# EAGLE library part TM4C129 (library texas-instruments)
tm4c129dncpdt_ra0_tqfp_v0p1 edit this description Auto generated by make-symbol-device-package-bsdl.ulp Rev. 44 Source: tm4c129dncpdt_ra0_tqfp_v0p1.bsdl
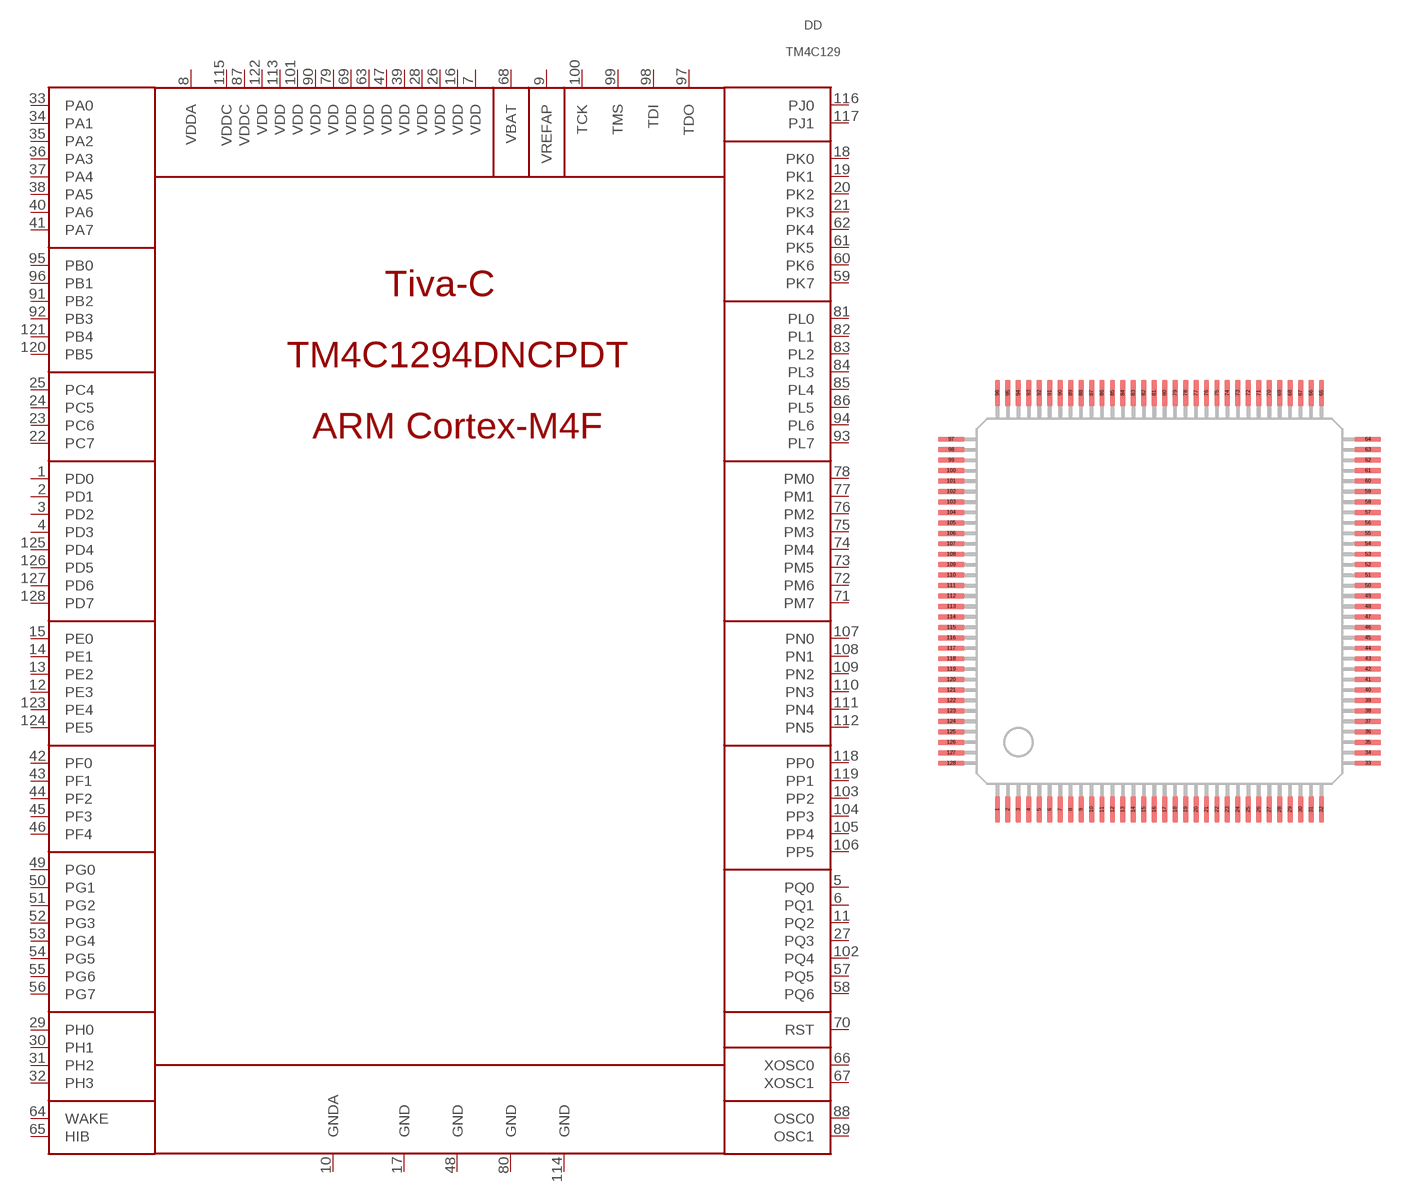
[diagram p1: symbol with the pads of TQFP128; footprint TQFP128]

Designator prefix DD

## TM4C129DNCPDT  [TQFP128]
1  PD0
2  PD1
3  PD2
4  PD3
5  PQ0
6  PQ1
7  VDD  pwr
8  VDDA  pwr
9  VREFAP  pas
10  GNDA  pwr
11  PQ2
12  PE3
13  PE2
14  PE1
15  PE0
16  VDD  pwr
17  GND  pwr
18  PK0
19  PK1
20  PK2
21  PK3
22  PC7
23  PC6
24  PC5
25  PC4
26  VDD  pwr
27  PQ3
28  VDD  pwr
29  PH0
30  PH1
31  PH2
32  PH3
33  PA0
34  PA1
35  PA2
36  PA3
37  PA4
38  PA5
39  VDD  pwr
40  PA6
41  PA7
42  PF0
43  PF1
44  PF2
45  PF3
46  PF4
47  VDD  pwr
48  GND  pwr
49  PG0
50  PG1
51  PG2
52  PG3
53  PG4
54  PG5
55  PG6
56  PG7
57  PQ5
58  PQ6
59  PK7
60  PK6
61  PK5
62  PK4
63  VDD  pwr
64  WAKE  pas
65  HIB  pas
66  XOSC0  pas
67  XOSC1  pas
68  VBAT  pas
69  VDD  pwr
70  RST  in
71  PM7
72  PM6
73  PM5
74  PM4
75  PM3
76  PM2
77  PM1
78  PM0
79  VDD  pwr
80  GND  pwr
81  PL0
82  PL1
83  PL2
84  PL3
85  PL4
86  PL5
87  VDDC  pwr
88  OSC0  pas
89  OSC1  pas
90  VDD  pwr
91  PB2
92  PB3
93  PL7
94  PL6
95  PB0
96  PB1
97  TDO  out
98  TDI  in
99  TMS  in
100  TCK  in
101  VDD  pwr
102  PQ4
103  PP2
104  PP3
105  PP4
106  PP5
107  PN0
108  PN1
109  PN2
110  PN3
111  PN4
112  PN5
113  VDD  pwr
114  GND  pwr
115  VDDC  pwr
116  PJ0
117  PJ1
118  PP0
119  PP1
120  PB5
121  PB4
122  VDD  pwr
123  PE4
124  PE5
125  PD4
126  PD5
127  PD6
128  PD7

## Footprint TQFP128 (pad centres in mm)
smd 0.2 x 1: 1 -6.2,-7.975; 2 -5.8,-7.975; 3 -5.4,-7.975; 4 -5,-7.975; 5 -4.6,-7.975; 6 -4.2,-7.975; 7 -3.8,-7.975; 8 -3.4,-7.975; 9 -3,-7.975; 10 -2.6,-7.975; 11 -2.2,-7.975; 12 -1.8,-7.975; 13 -1.4,-7.975; 14 -1,-7.975; 15 -0.6,-7.975; 16 -0.2,-7.975; 17 0.2,-7.975; 18 0.6,-7.975; 19 1,-7.975; 20 1.4,-7.975; 21 1.8,-7.975; 22 2.2,-7.975; 23 2.6,-7.975; 24 3,-7.975; 25 3.4,-7.975; 26 3.8,-7.975; 27 4.2,-7.975; 28 4.6,-7.975; 29 5,-7.975; 30 5.4,-7.975; 31 5.8,-7.975; 32 6.2,-7.975; 65 6.2,7.975; 66 5.8,7.975; 67 5.4,7.975; 68 5,7.975; 69 4.6,7.975; 70 4.2,7.975; 71 3.8,7.975; 72 3.4,7.975; 73 3,7.975; 74 2.6,7.975; 75 2.2,7.975; 76 1.8,7.975; 77 1.4,7.975; 78 1,7.975; 79 0.6,7.975; 80 0.2,7.975; 81 -0.2,7.975; 82 -0.6,7.975; 83 -1,7.975; 84 -1.4,7.975; 85 -1.8,7.975; 86 -2.2,7.975; 87 -2.6,7.975; 88 -3,7.975; 89 -3.4,7.975; 90 -3.8,7.975; 91 -4.2,7.975; 92 -4.6,7.975; 93 -5,7.975; 94 -5.4,7.975; 95 -5.8,7.975; 96 -6.2,7.975
smd 1 x 0.2: 33 7.975,-6.2; 34 7.975,-5.8; 35 7.975,-5.4; 36 7.975,-5; 37 7.975,-4.6; 38 7.975,-4.2; 39 7.975,-3.8; 40 7.975,-3.4; 41 7.975,-3; 42 7.975,-2.6; 43 7.975,-2.2; 44 7.975,-1.8; 45 7.975,-1.4; 46 7.975,-1; 47 7.975,-0.6; 48 7.975,-0.2; 49 7.975,0.2; 50 7.975,0.6; 51 7.975,1; 52 7.975,1.4; 53 7.975,1.8; 54 7.975,2.2; 55 7.975,2.6; 56 7.975,3; 57 7.975,3.4; 58 7.975,3.8; 59 7.975,4.2; 60 7.975,4.6; 61 7.975,5; 62 7.975,5.4; 63 7.975,5.8; 64 7.975,6.2; 97 -7.975,6.2; 98 -7.975,5.8; 99 -7.975,5.4; 100 -7.975,5; 101 -7.975,4.6; 102 -7.975,4.2; 103 -7.975,3.8; 104 -7.975,3.4; 105 -7.975,3; 106 -7.975,2.6; 107 -7.975,2.2; 108 -7.975,1.8; 109 -7.975,1.4; 110 -7.975,1; 111 -7.975,0.6; 112 -7.975,0.2; 113 -7.975,-0.2; 114 -7.975,-0.6; 115 -7.975,-1; 116 -7.975,-1.4; 117 -7.975,-1.8; 118 -7.975,-2.2; 119 -7.975,-2.6; 120 -7.975,-3; 121 -7.975,-3.4; 122 -7.975,-3.8; 123 -7.975,-4.2; 124 -7.975,-4.6; 125 -7.975,-5; 126 -7.975,-5.4; 127 -7.975,-5.8; 128 -7.975,-6.2